# Altium footprint library МЦТР.00010528.00.001.PcbLib: 36 footprints (part 2 of 3)
Each footprint in its own frame and in the unit in brackets; x right, y up, seen from the top. Pads: shape width x height; smd on the part's side, far side on the other; paste and mask are expansions set on the pad; w line width, h text height; cw(c..) or ccw(c..) is an arc to the next point about the centre after c.
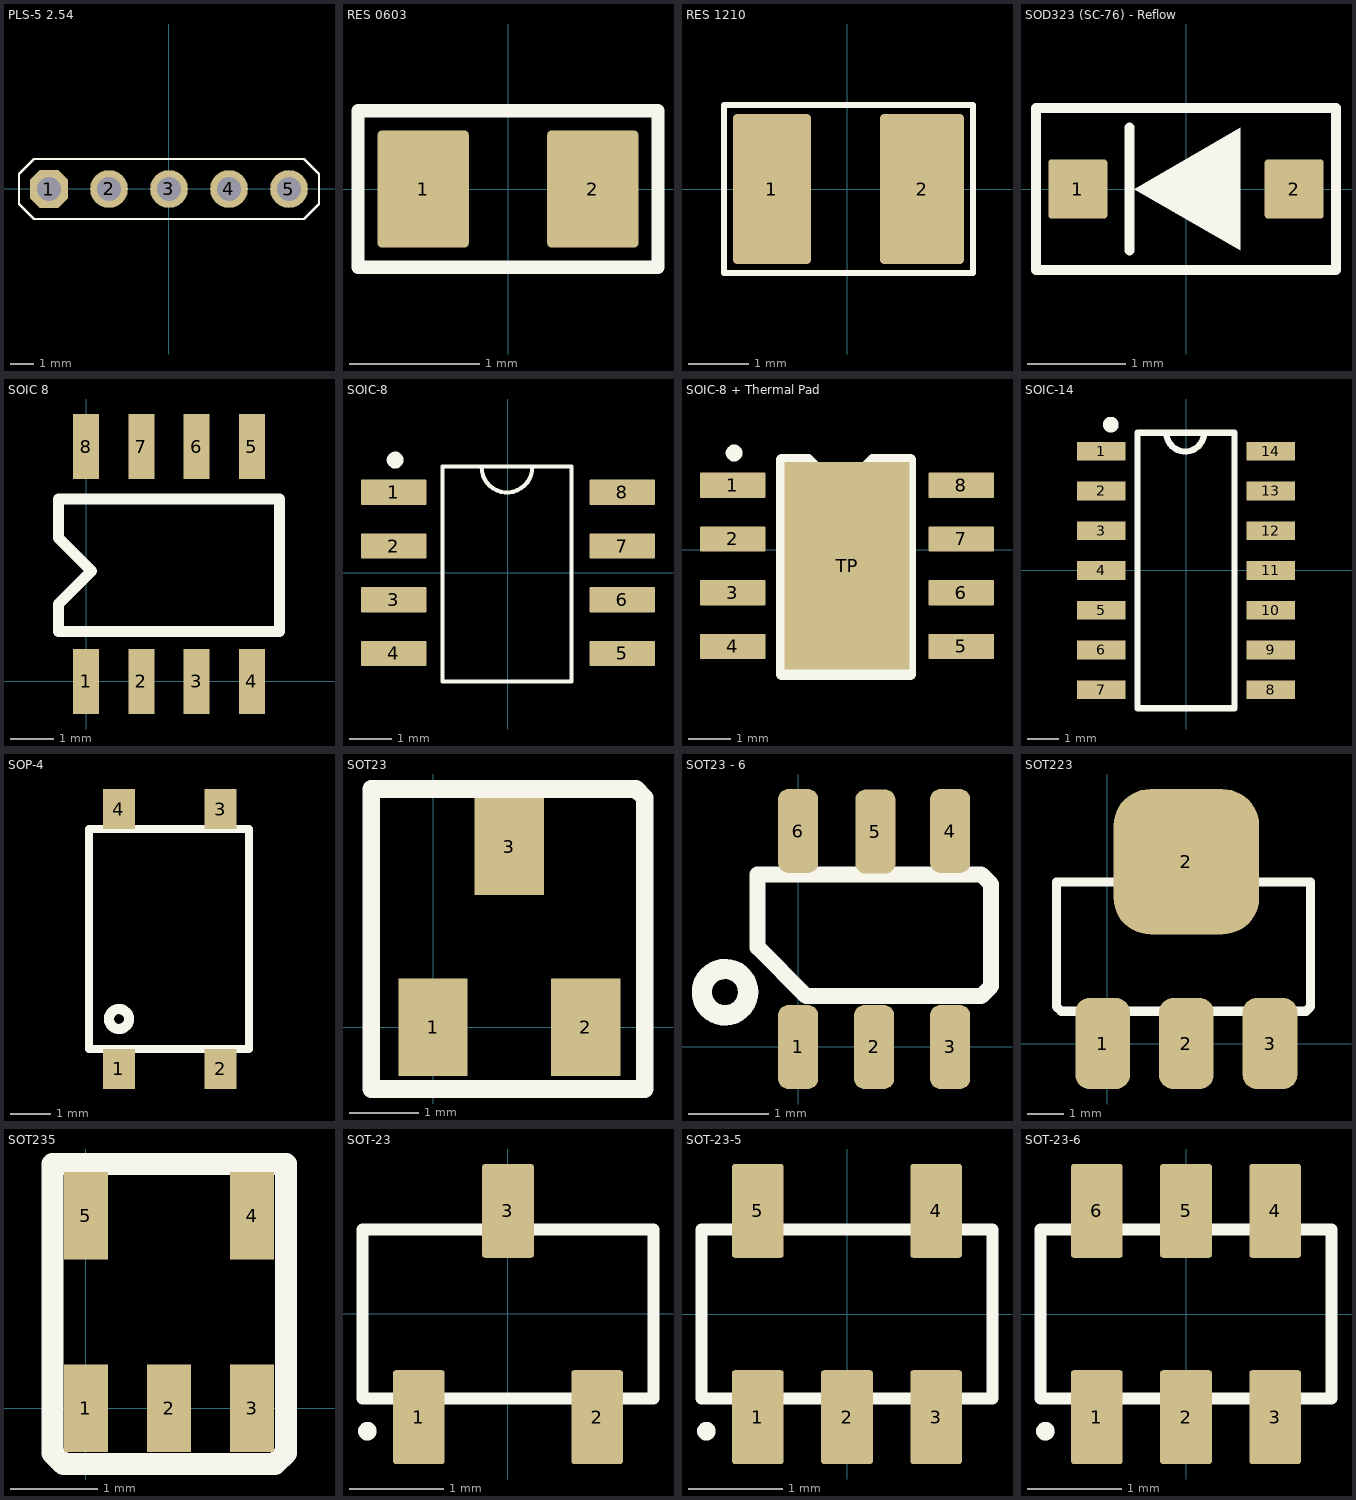
[diagram p1: the footprints below, top view; thin cyan lines are the x and y axes]

## PLS-5 2.54 [mm]
height 8
pads (5):
  oct 1.6x1.6 hole 1: 1(-5.08,0)
  round 1.6 hole 1: 2(-2.54,0) 3(0,0) 4(2.54,0) 5(5.08,0)
Top Overlay:
  lines w0.1: -6.35,-0.635 -6.35,0.635 -5.715,1.27 5.715,1.27 6.35,0.635 6.35,-0.635 5.715,-1.27 -5.715,-1.27 -6.35,-0.635

## RES 0603 [mm] "Resistor SMD 0603"
height 8
pads (2):
  rrect10% 0.7x0.9 smd mask+0.1: 1(-0.65,0) 2(0.65,0)
Top Overlay:
  lines w0.1: -1.15,-0.6 1.15,-0.6 1.15,0.6 -1.15,0.6 -1.15,-0.6
3D body "RESC-0603.stp": height 0.55, standoff 0, extent -0.85,-0.45 0.85,0.45

## RES 1210 [mm] "Resistor SMD 1210"
height 8
pads (2):
  rrect10% 1.3x2.5 smd mask+0.1: 1(-1.25,0)
  rrect10% 1.4x2.5 smd mask+0.1: 2(1.25,0)
Top Overlay:
  lines w0.1: -2.05,-1.4 -2.05,1.4 2.1,1.4 2.1,-1.4 -2.05,-1.4
3D body "RESC-1210.stp": height 0.6, standoff 0, extent -1.65,-1.35 1.65,1.35

## SOD323 (SC-76) - Reflow [mm] "SOD323 (SC-76) for Reflow Soldering"
pads (2):
  rrect10% 0.6x0.6 smd: 1(-1.1,0) 2(1.1,0)
Top Overlay:
  region: -0.525,0 0.55,-0.625 0.55,0.625
  lines w0.1: -0.575,-0.625 -0.575,0.625 ; -1.525,-0.825 -1.525,0.825 1.525,0.825 1.525,-0.825 -1.525,-0.825
3D body "SOD-323.STEP": height 1.17, standoff 0.02, extent -1.35,-0.723 1.35,0.723

## SOIC 8 [mm]
height 1
pads (8):
  rect 0.6x1.5 smd: 1(0,0) 2(1.27,0) 3(2.54,0) 4(3.81,0) 5(3.81,5.4) 6(2.54,5.4) 7(1.27,5.4) 8(0,5.4)
Top Overlay:
  lines w0.254: -0.635,1.143 -0.635,1.778 0.127,2.54 -0.635,3.302 -0.635,4.191 4.445,4.191 4.445,1.143 -0.635,1.143
3D body: height 1, standoff 0, extent -0.762,1.016 4.572,4.318

## SOIC-8 [mm]
height 8
pads (8):
  rrect10% 1.55x0.6 smd mask+0: 1(-2.7,1.905) 2(-2.7,0.635) 3(-2.7,-0.635) 4(-2.7,-1.905) 5(2.7,-1.905) 6(2.7,-0.635) 7(2.7,0.635) 8(2.7,1.905)
Top Overlay:
  circle w0.2: c-2.667,2.667 r0.1
  lines w0.1: -0.625,2.5 ccw(c-0.025,2.5) 0.575,2.5 ; -1.549,-2.565 1.499,-2.565 1.499,2.515 -1.549,2.515 -1.549,-2.565
Top Solder:
  drawing of 8 lines, arcs and shapes, not listed
3D body "SOIC8-150-50.STEP": height 1.91, standoff 0, extent -3,-2.45 3,2.45

## SOIC-8 + Thermal Pad [mm]
pads (9):
  rrect10% 1.55x0.6 smd mask+0: 1(11.27,1.524) 2(11.27,0.254) 3(11.27,-1.016) 4(11.27,-2.286) 5(16.67,-2.286) 6(16.67,-1.016) 7(16.67,0.254) 8(16.67,1.524)
  rect 2.95x4.9 smd paste-3 mask+0: TP(13.97,-0.381)
Top Overlay:
  circle w0.2: c11.303,2.286 r0.1
  lines w0.254: 12.421,-2.946 12.421,2.134 13.056,2.134 13.818,1.372 14.58,2.134 15.469,2.134 15.469,-2.946 12.421,-2.946
Top Paste:
  region: 15.27,-1.931 12.67,-1.931 12.67,1.169 15.27,1.169
Top Solder:
  drawing of 9 lines, arcs and shapes, not listed
3D body: height 0, standoff 0, extent 10.495,-2.831 17.445,2.069

## SOIC-14 [mm]
height 8
pads (14):
  rect 1.55x0.6 smd: 1(-2.7,3.81) 2(-2.7,2.54) 3(-2.7,1.27) 4(-2.7,0) 5(-2.7,-1.27) 6(-2.7,-2.54) 7(-2.7,-3.81) 8(2.7,-3.81) 9(2.7,-2.54) 10(2.7,-1.27) 11(2.7,0) 12(2.7,1.27) 13(2.7,2.54) 14(2.7,3.81)
Top Overlay:
  circle w0.25: c-2.4,4.66 r0.125
  lines w0.2: -0.625,4.4 ccw(c-0.025,4.4) 0.575,4.4 ; -1.55,-4.4 -1.55,4.4 1.55,4.4 1.55,-4.4 -1.55,-4.4
3D body "SOIC-14 Narrow 3.9mm.step": height 1.35, standoff 0, extent -2.99,-4.325 2.99,4.325

## SOP-4 [mm]
pads (4):
  rect 0.8x1 smd: 1(3,1.5) 2(5.54,1.5) 3(5.54,8) 4(3,8)
Top Overlay:
  circle w0.254: c3,2.75 r0.25
  lines w0.2: 2.25,2 2.25,7.5 6.25,7.5 6.25,2 2.25,2
3D body: height 0, standoff 0, extent 2.15,1.9 6.35,7.6

## SOT23 [mm]
height 1
pads (3):
  rect 1x1.4 smd: 1(0,0) 2(2.2,0) 3(1.1,2.6)
Top Overlay:
  lines w0.254: -0.889,-0.889 3.048,-0.889 3.048,3.302 2.921,3.429 -0.889,3.429 -0.889,-0.889
3D body: height 1, standoff 0, extent -0.602,-0.802 2.802,3.402

## SOT23 - 6 [mm]
height 1
pads (6):
  rrect50% 0.5x1.05 smd: 1(0,0) 2(0.95,0) 3(1.9,0) 4(1.9,2.7) 5(0.965,2.692) 6(0,2.7)
Top Overlay:
  circle w0.254: c-0.914,0.686 r0.29
  lines w0.2: -0.508,1.245 0.102,0.635 2.286,0.635 2.413,0.762 2.413,2.032 2.286,2.159 -0.508,2.159 -0.508,1.245

## SOT223 [mm]
height 1
pads (4):
  rrect50% 1.5x2.5 smd mask+0.1: 1(-0.127,0) 2(2.173,0) 3(4.473,0)
  rrect50% 4x4 smd: 2(2.173,5)
Top Overlay:
  lines w0.254: -1.397,1.016 -1.397,4.445 5.588,4.445 5.588,1.016 5.461,0.889 -1.27,0.889 -1.397,1.016
3D body: height 1, standoff 0, extent -1.524,0.762 5.715,4.572

## SOT235 [mm]
height 1
pads (5):
  rect 0.5x1 smd: 1(0,0) 2(0.95,0) 3(1.9,0) 4(1.9,2.2) 5(0,2.2)
Top Overlay:
  lines w0.254: -0.381,-0.508 -0.381,2.794 2.286,2.794 2.286,-0.508 2.159,-0.635 -0.254,-0.635 -0.381,-0.508

## SOT-23 [mm]
height 8
pads (3):
  rrect10% 0.55x1 smd mask+0.102: 1(-0.95,-1.1)
  rrect10% 0.55x1 smd mask+0.1: 2(0.95,-1.1) 3(0,1.1)
Top Overlay:
  circle w0.1: c-1.5,-1.25 r0.05
  lines w0.127: -1.55,-0.9 -1.55,0.9 1.55,0.9 1.55,-0.9 -1.55,-0.9
3D body "SOT23-3.step": height 1.1, standoff 0, extent -1.5,-1.25 1.5,1.25

## SOT-23-5 [mm]
pads (5):
  rrect10% 0.55x1 smd: 1(-0.95,-1.1) 2(0,-1.1) 3(0.95,-1.1) 4(0.95,1.1) 5(-0.95,1.1)
Top Overlay:
  circle w0.1: c-1.5,-1.25 r0.05
  lines w0.127: -1.55,-0.9 -1.55,0.9 1.55,0.9 1.55,-0.9 -1.55,-0.9
3D body "SOT23-5.step": height 1.1, standoff 0, extent -1.5,-1.25 1.5,1.25

## SOT-23-6 [mm]
height 8
pads (6):
  rrect10% 0.55x1 smd: 1(-0.95,-1.1) 2(0,-1.1) 3(0.95,-1.1) 4(0.95,1.1) 5(0,1.1) 6(-0.95,1.1)
Top Overlay:
  circle w0.1: c-1.5,-1.25 r0.05
  lines w0.127: -1.55,-0.9 -1.55,0.9 1.55,0.9 1.55,-0.9 -1.55,-0.9
3D body "SOT23-6.step": height 1.1, standoff 0, extent -1.5,-1.25 1.5,1.25